# EAGLE library part MEADOW_F7_MICRO (library SLJ_Connectors)
Wilderness labs f7 micro. Bluetooth wifi
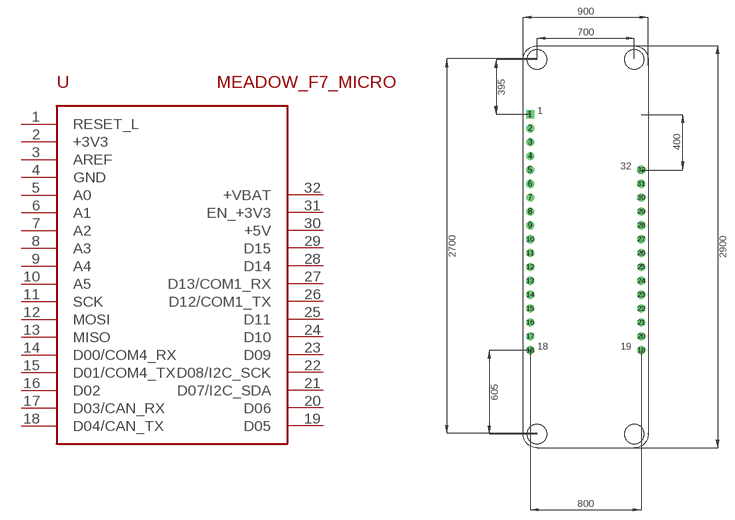
[diagram p3: symbol with the pads of MEADOW_F7_MICRO; footprint MEADOW_F7_MICRO]

Designator prefix -

## MEADOW_F7_MICRO (MF: Wilderness Labs; PN: Meadow F7 Micro)  [MEADOW_F7_MICRO]
1  RESET_L  in
2  +3V3  pwr
3  AREF  pwr
4  GND  pwr
5  A0
6  A1
7  A2
8  A3
9  A4
10  A5
11  SCK
12  MOSI
13  MISO
14  D00/COM4_RX
15  D01/COM4_TX
16  D02
17  D03/CAN_RX
18  D04/CAN_TX
19  D05
20  D06
21  D07/I2C_SDA
22  D08/I2C_SCK
23  D09
24  D10
25  D11
26  D12/COM1_TX
27  D13/COM1_RX
28  D14
29  D15
30  +5V  pwr
31  EN_+3V3  in
32  +VBAT  pwr

## Footprint MEADOW_F7_MICRO (pad centres in mm)
drill 1 pad 1.499 square: 1 0,0
drill 1 pad 1.499: 2 0,-2.54; 3 0,-5.08; 4 0,-7.62; 5 0,-10.16; 6 0,-12.7; 7 0,-15.24; 8 0,-17.78; 9 0,-20.32; 10 0,-22.86; 11 0,-25.4; 12 0,-27.94; 13 0,-30.48; 14 0,-33.02; 15 0,-35.56; 16 0,-38.1; 17 0,-40.64; 18 0,-43.18; 19 20.32,-43.18; 20 20.32,-40.64; 21 20.32,-38.1; 22 20.32,-35.56; 23 20.32,-33.02; 24 20.32,-30.48; 25 20.32,-27.94; 26 20.32,-25.4; 27 20.32,-22.86; 28 20.32,-20.32; 29 20.32,-17.78; 30 20.32,-15.24; 31 20.32,-12.7
drill 1 pad 1.499 octagon: 32 20.32,-10.16